# Altium schematic symbol library Library.SchLib: 23 symbols
Pins are listed as number, name and electrical type; pins without a type are passive.

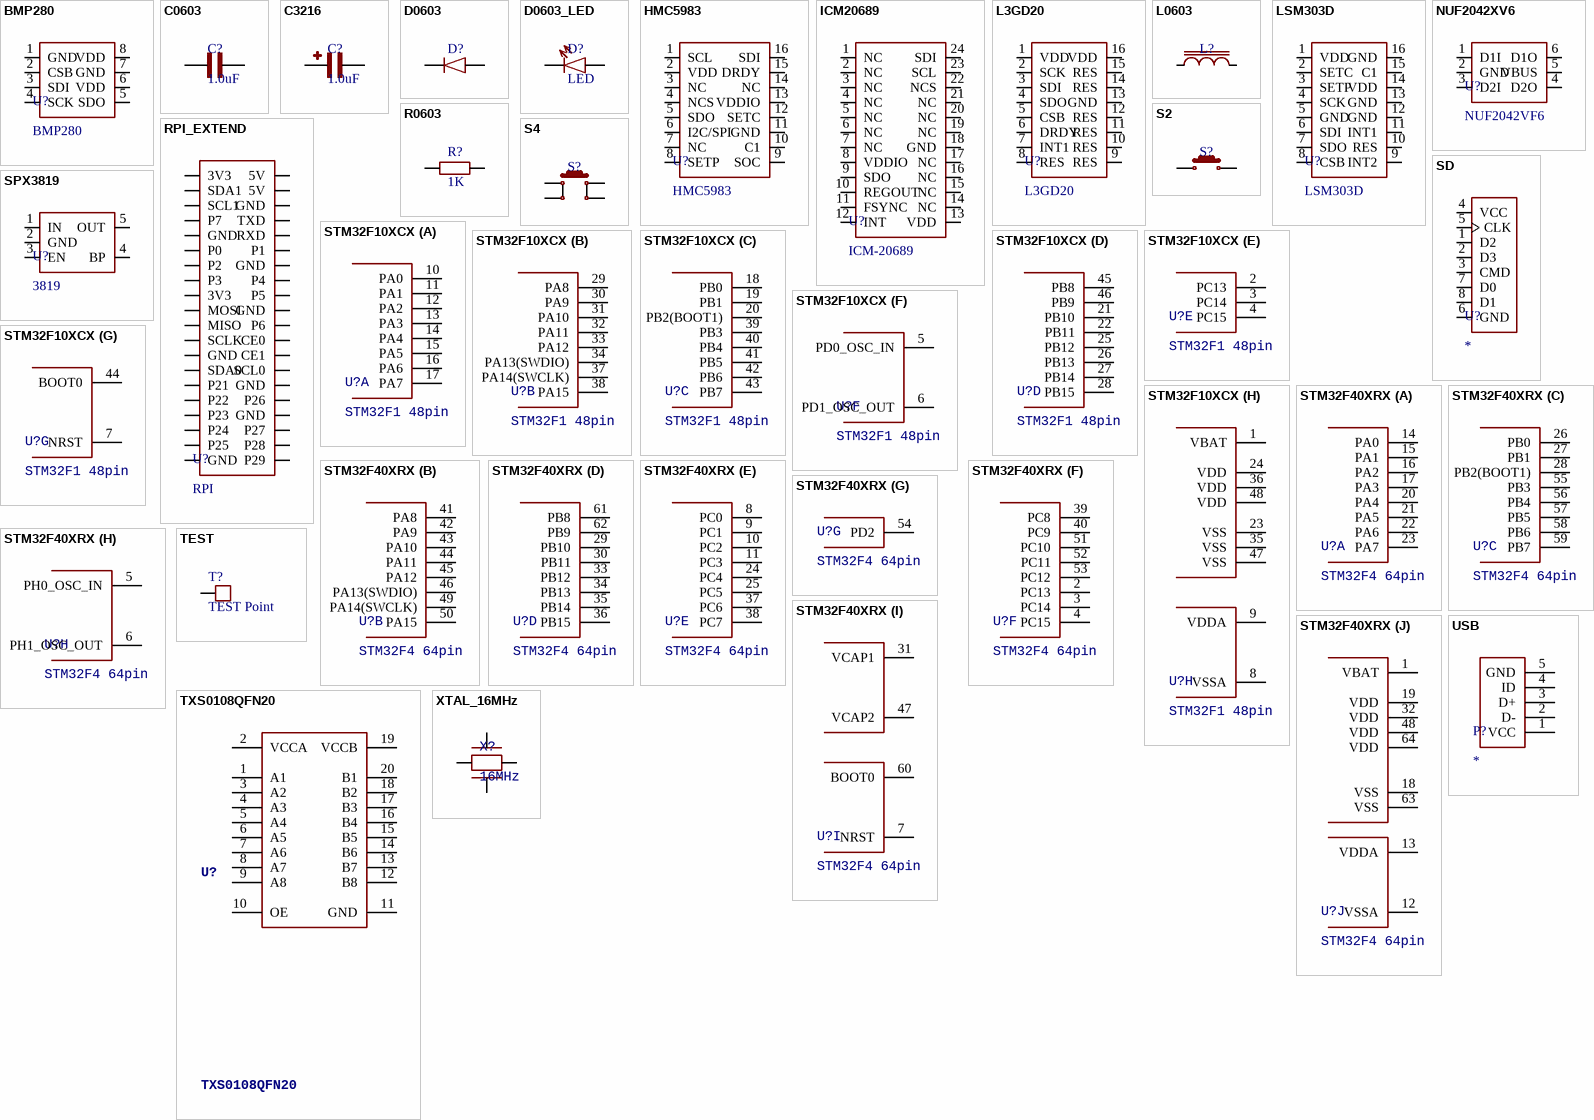
[diagram p0: symbols BMP280 to XTAL_16MHz]

## BMP280
designator U?
pins: 1 GND, 2 CSB, 3 SDI, 4 SCK, 5 SDO, 6 VDD, 7 GND, 8 VDD

## C0603
designator C?, comment 1.0uF
footprint 0603_C (电容_0603)
pins: 1, 2

## C3216
designator C?, comment 1.0uF
footprint 3216_C (钽电容_3216)
pins: 1, 2

## D0603
designator D?, comment D  (value not drawn)
footprint SOD-323
pins: 1, 2

## D0603_LED
designator D?, comment LED
footprint 0603_D (LED_0603)
pins: 1, 2

## HMC5983
designator U?
pins: 1 SCL, 2 VDD, 3 NC, 4 NCS, 5 SDO, 6 I2C/SPI, 7 NC, 8 SETP, 9 SOC, 10 C1, 11 GND, 12 SETC, 13 VDDIO, 14 NC, 15 DRDY, 16 SDI

## ICM20689
designator U?, comment ICM-20689
pins: 1 NC, 2 NC, 3 NC, 4 NC, 5 NC, 6 NC, 7 NC, 8 VDDIO, 9 SDO, 10 REGOUT, 11 FSYNC, 12 INT, 13 VDD, 14 NC, 15 NC, 16 NC, 17 NC, 18 GND, 19 NC, 20 NC, 21 NC, 22 NCS, 23 SCL, 24 SDI

## L3GD20
designator U?
pins: 1 VDD, 2 SCK, 3 SDI, 4 SDO, 5 CSB, 6 DRDY, 7 INT1, 8 RES, 9 RES, 10 RES, 11 RES, 12 RES, 13 GND, 14 RES, 15 RES, 16 VDD

## L0603
designator L?, comment L  (value not drawn)
footprint 0603_L (电感_0603)
pins: 1, 2

## LSM303D
designator U?
pins: 1 VDD, 2 SETC, 3 SETP, 4 SCK, 5 GND, 6 SDI, 7 SDO, 8 CSB, 9 INT2, 10 RES, 11 INT1, 12 GND, 13 GND, 14 VDD, 15 C1, 16 GND

## NUF2042XV6
designator U?, comment NUF2042VF6
pins: 1 D1I, 2 GND, 3 D2I, 4 D2O, 5 VBUS, 6 D1O

## R0603
designator R?, comment 1K
footprint 0603_R (电阻_0603)
pins: 1, 2

## RPI_EXTEND
designator U?, comment RPI
footprint RPI_EXTEND
pins: 1 3V3, 2 5V, 3 SDA1, 4 5V, 5 SCL1, 6 GND, 7 P7, 8 TXD, 9 GND, 10 RXD, 11 P0, 12 P1, 13 P2, 14 GND, 15 P3, 16 P4, 17 3V3, 18 P5, 19 MOSI, 20 GND, 21 MISO, 22 P6, 23 SCLK, 24 CE0, 25 GND, 26 CE1, 27 SDA0, 28 SCL0, 29 P21, 30 GND, 31 P22, 32 P26, 33 P23, 34 GND, 35 P24, 36 P27, 37 P25, 38 P28, 39 GND, 40 P29

## S2
designator S?, comment SW  (value not drawn)
footprint SW_3*6 (按键)
pins: 1, 2

## S4
designator S?, comment SW  (value not drawn)
footprint SW_4.5*4.5 (按键)
pins: 1, 2, 3, 4

## SD
designator U?
footprint MicroSD (TF)
pins: 1 D2, 2 D3, 3 CMD, 4 VCC, 5 CLK, 6 GND (power), 7 D0, 8 D1

## SPX3819
designator U?, comment 3819
footprint SOT23-5
pins: 1 IN, 2 GND, 3 EN, 4 BP, 5 OUT

## STM32F10XCX
designator U?, comment STM32F1 48pin
MCU ARM 64K FLASH 48LQFP
footprint LQFP-48 (STM32F103C8T6)
part A pins: 10 PA0, 11 PA1, 12 PA2, 13 PA3, 14 PA4, 15 PA5, 16 PA6, 17 PA7
part B pins: 29 PA8, 30 PA9, 31 PA10, 32 PA11, 33 PA12, 34 PA13(SWDIO), 37 PA14(SWCLK), 38 PA15
part C pins: 18 PB0, 19 PB1, 20 PB2(BOOT1), 39 PB3, 40 PB4, 41 PB5, 42 PB6, 43 PB7
part D pins: 21 PB10, 22 PB11, 25 PB12, 26 PB13, 27 PB14, 28 PB15, 45 PB8, 46 PB9
part E pins: 2 PC13, 3 PC14, 4 PC15
part F pins: 5 PD0_OSC_IN, 6 PD1_OSC_OUT
part G pins: 7 NRST, 44 BOOT0
part H pins: 1 VBAT (power), 8 VSSA (power), 9 VDDA (power), 23 VSS (power), 24 VDD (power), 35 VSS (power), 36 VDD (power), 47 VSS (power), 48 VDD (power)

## STM32F40XRX
designator U?, comment STM32F4 64pin
MCU ARM 1MB FLASH 64LQFP
footprint LQFP-64 (STM32F405RGT6)
part A pins: 14 PA0, 15 PA1, 16 PA2, 17 PA3, 20 PA4, 21 PA5, 22 PA6, 23 PA7
part B pins: 41 PA8, 42 PA9, 43 PA10, 44 PA11, 45 PA12, 46 PA13(SWDIO), 49 PA14(SWCLK), 50 PA15
part C pins: 26 PB0, 27 PB1, 28 PB2(BOOT1), 55 PB3, 56 PB4, 57 PB5, 58 PB6, 59 PB7
part D pins: 29 PB10, 30 PB11, 33 PB12, 34 PB13, 35 PB14, 36 PB15, 61 PB8, 62 PB9
part E pins: 8 PC0, 9 PC1, 10 PC2, 11 PC3, 24 PC4, 25 PC5, 37 PC6, 38 PC7
part F pins: 2 PC13, 3 PC14, 4 PC15, 39 PC8, 40 PC9, 51 PC10, 52 PC11, 53 PC12
part G pins: 54 PD2
part H pins: 5 PH0_OSC_IN, 6 PH1_OSC_OUT
part I pins: 7 NRST, 31 VCAP1, 47 VCAP2, 60 BOOT0
part J pins: 1 VBAT (power), 12 VSSA (power), 13 VDDA (power), 18 VSS (power), 19 VDD (power), 32 VDD (power), 48 VDD (power), 63 VSS (power), 64 VDD (power)

## TEST
designator T?, comment TEST Point
footprint TEST (Test point)
pins: 0 TEST

## TXS0108QFN20
designator U?
footprint QFN20-RGY
pins: 1 A1, 2 VCCA, 3 A2, 4 A3, 5 A4, 6 A5, 7 A6, 8 A7, 9 A8, 10 OE, 11 GND (power), 12 B8, 13 B7, 14 B6, 15 B5, 16 B4, 17 B3, 18 B2, 19 VCCB, 20 B1

## USB
designator P?
footprint MICROUSB (MicroUSB)
pins: 1 VCC, 2 D-, 3 D+, 4 ID, 5 GND

## XTAL_16MHz
designator X?, comment 16MHz
footprint XTAL_3225
pins: 1, 2, 3, 4